# Altium schematic symbol library Incubator_HUZZAH32.SchLib: 14 symbols
Pins are listed as number, name and electrical type; pins without a type are passive.

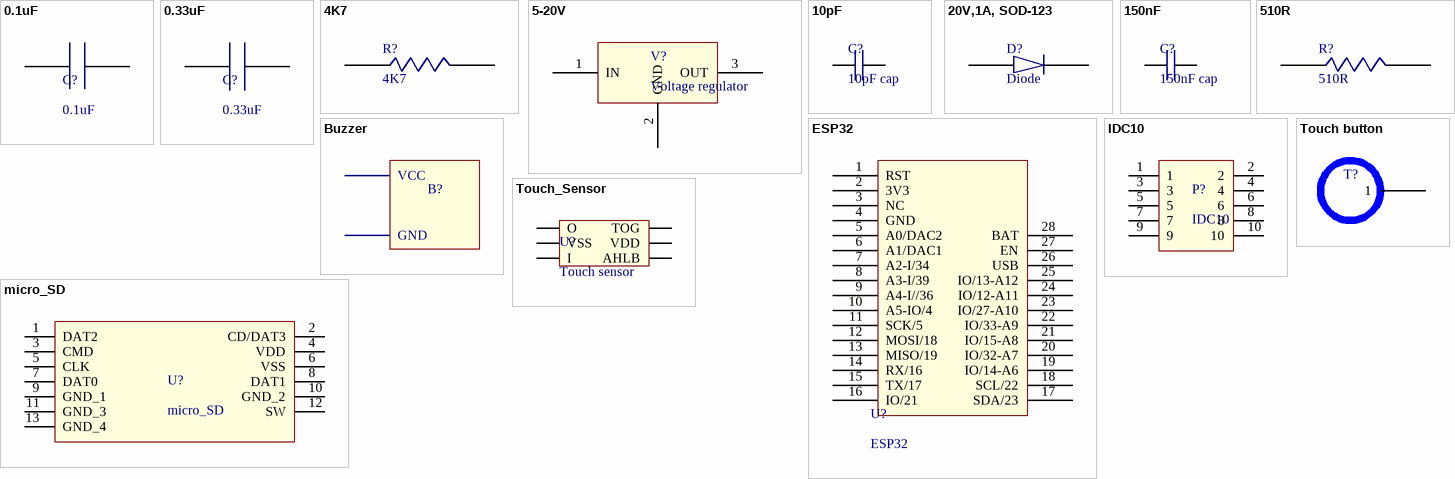
[diagram p0: symbols 0.1uF to Touch_Sensor]

## 0.1uF
designator C?
CAP CER 0.1UF 50V X7R 0603; Manufacturer: KEMET; Manufacturer Part Number: C0603C104J5RACAUTO; Capacitance: .1uF; Tolerance (+ or -): 5%; Voltage: 50VDC; Case Style: Ceramic Chip; Wire Form: Not Required; Product Length (mm): 1.6mm; Product Depth (mm): 0.8mm; Product Diameter (mm): Not Requiredmm; Supplier 1: Farnell; Stock 1: 0; Temp Coeff (Dielectric): X7R; Operating Temp Range: -55C to 125C; Mounting Style: Surface Mount; Package / Case: 0603; Construction: SMT Chip; Failure Rate: Not Required; Product Height (mm): 0.8mm; Packaging: Tape and Reel; Supplier Part Number 1: 2478241
footprint CAP0603 (Chip Capacitor, 2-Leads, Body 1.60x0.80mm, IPC Medium Density)
pins: 1, 2

## 0.33uF
designator C?
0.33µF ±10% 50V X7R Ceramic Capacitor -55°C ~ 125°C Surface Mount, MLCC 0603 (1608 Metric) 0.063" L x 0.031" W (1.60mm x 0.80mm); Manufacturer: TDK; Manufacturer Part Number: C1608X7R1H334K080AC; PCN Part Number: MLCC Part Number Change 30/Nov/2012; Product Training Modules: C Series General Applications SEAT, CCV, and TVCL Design Tools Guide to Replacing an Electrolytic Capacitor with an MLCC; Catalog Drawings: C SERIES_0603_0.95; Design Resources: 20 W Non-Isolated Buck LED Driver Using PL LNK460KG; EDA / CAD Models: Download from Accelerated Designs; Online Catalog: C Series, General Purpose; Other Names: 445-5950-6; Supplier 1: Farnell; Stock 1: 46003; Pricing 1: 10=0.405, 100=0.221, 500=0.152, 1000=0.116 (EUR); RoHS Information: RoHS Certificate-MLCC; Standard Package: 1; Category: Capacitors; Family: Ceramic Capacitors; Series: C; Packaging: Digi-Reel®; Capacitance: 0.33µF; Tolerance: ±10%; Voltage - Rated: 50V; Temperature Coefficient: X7R; Mounting Type: Surface Mount, MLCC; Operating Temperature: -55°C ~ 125°C; Applications: General Purpose; Package / Case: 0603 (1608 Metric); Size / Dimension: 0.063" L x 0.031" W (1.60mm x 0.80mm); Thickness (Max): 0.037" (0.95mm); Supplier Part Number 1: 2346907
footprint CAP0603 (Chip Capacitor, 2-Leads, Body 1.60x0.80mm, IPC Medium Density)
pins: 1, 2

## 4K7
designator R?
Res Thick Film 0603 4.7K Ohm 1% 0.1W(1/10W) ±100ppm/C Molded SMD Automotive T/R; Manufacturer: Panasonic; Manufacturer Part Number: ERJ-3EKF4701V; Resistance: 4.7 kOhms; Power Rating: 100 mW; Voltage Rating: 75 V; Qualification: AEC-Q200; Unit Weight: 0.000071 oz; Supplier 1: Farnell; Stock 1: 3193; Pricing 1: 10=0.0347, 100=0.0206, 500=0.0159, 1000=0.0142 (GBP); Product Category: Thick Film Resistors; RoHS: True; Tolerance: 1 %; Case Code - in: 0603; Temperature Coefficient: 100 PPM / C; Case Code - mm: 1608; Operating Temperature Range: - 55 C to + 155 C; Series: ERJ; Type: Precision Thick Film Resistors SMD; Brand: Panasonic; Height: 0.45 mm; Length: 1.6 mm; Package / Case: 0603 (1608 metric); Packaging: Reel; Product: Thick Film Resistors SMD; Factory Pack Quantity: 5000; Termination Style: SMD/SMT; Width: 0.8 mm; Supplier Part Number 1: 2303181
footprint RES0603 (Chip Resistor, 2-Leads, Body 1.60x0.80mm, IPC Medium Density)
pins: 1, 2

## 5-20V
designator V?, comment Voltage regulator
FAIRCHILD SEMICONDUCTOR         KA7805ERTF             Linear Voltage Regulator, 7805, Fixed, 10V To 35V In, 5V And 1A Out, TO-252-3; Manufacturer: ON Semiconductor / Fairchild; Minimum Input Voltage: 7 V; Maximum Input Voltage: 25 V; Number of Outputs: 1; Polarity: Positive; Typical Dropout Voltage @ Current: 2 V @ 1 A; Quiescent Current: 8mA; Load Regulation: 100 mV; Supplier 1: Farnell; Manufacturer Part Number: KA7805ERTF; Stock 1: 0; Pricing 1: 1=0.793, 50=0.693, 100=0.447 (GBP); Output Voltage: 5 V; Maximum Output Current: 1A; Package Type: DPAK; Output Type: Fixed; Mounting Type: Surface Mount; Regulator Function: Linear; Pin Count: 3; Minimum Operating Temperature: 0 °C; Maximum Operating Temperature: +125 °C; Series: KA78xx; Height: 2.38mm; Width: 6.22mm; Dropout Voltage Measurement Current: 1 A; Dimensions: 6.73 x 6.22 x 2.38mm; Length: 6.73mm; Line Regulation: 100 mV; Supplier Part Number 1: 2102585
footprint DPAK248P950X240-3N (D-PAK, 3-Pads, Body 6.25x6.76mm (max), IPC Medium Density)
pins: 1 IN, 2 GND, 3 OUT

## 10pF
designator C?, comment 10pF cap
Cap Ceramic 10pF 50V X7R 10% SMD 0603 125C T/R; Manufacturer: Kyocera AVX; Manufacturer Part Number: 06035C100KAT2A; Supplier 1: Farnell; Stock 1: 0; Capacitance: 10 pF; Case Size/Dimension: 0603; Dielectric: X7R; Tolerance (%): ±10 %; Rated Voltage: 50 V; Supplier Part Number 1: 2332633
footprint CAP0603 (Chip Capacitor, 2-Leads, Body 1.60x0.80mm, IPC Medium Density)
pins: 1, 2

## 20V,1A, SOD-123
designator D?, comment Diode
NXP         PMEG2010ER             Schottky Rectifier, Single, 20 V, 1 A, SOD-123W, 2 Pins, 340 mV; Manufacturer: NXP Semiconductors; Maximum Continuous Forward Current: 1A; Number of Elements per Chip: 1; Peak Reverse Repetitive Voltage: 20V; Peak Forward Voltage: 340mV; Peak Reverse Current: 1mA; Supplier 1: Farnell; Manufacturer Part Number: PMEG2010ER; Stock 1: 5091; Pricing 1: 5=0.314, 25=0.196, 100=0.147, 250=0.141, 500=0.0849, 1000=0.075, 5000=0.0735 (EUR); Diode Configuration: Single; Mounting Type: Surface Mount; Package Type: SOD-123; Diode Type: Schottky; Pin Count: 2; Length: 2.8mm; Width: 1.9mm; Height: 1.1mm; Dimensions: 2.8 x 1.9 x 1.1mm; Maximum Operating Temperature: +150 °C; Minimum Operating Temperature: -55 °C; ComponentLink1URL: https://datasheet.ciiva.com/5727/1760771-5727088.pdf; ComponentLink1Description: https://datasheet.ciiva.com/5727/1760771-5727088.pdf; ComponentLink2URL: https://datasheet.ciiva.com/22696/1383341-22696483.pdf; ComponentLink2Description: https://datasheet.ciiva.com/22696/1383341-22696483.pdf; ComponentLink3URL: https://datasheet.ciiva.com/7965/1383341-7965062.pdf; ComponentLink3Description: https://datasheet.ciiva.com/7965/1383341-7965062.pdf; Supplier Part Number 1: 1907681
footprint SODFL350X110-2N (SODFL, 2-Leads, Body 1.90x3.50mm, IPC Medium Density)
pins: 1, 2

## 150nF
designator C?, comment 150nF cap
Manufacturer: KEMET; Manufacturer Part Number: C0603C154K5RACAUTO; Capacitance: .15uF; Tolerance (+ or -): 10%; Voltage: 50VDC; Temp Coeff (Dielectric): X7R; Case Style: Ceramic Chip; Wire Form: Not Required; Product Length (mm): 1.6mm; Product Depth (mm): 0.8mm; Product Diameter (mm): Not Requiredmm; Supplier 1: Farnell; Stock 1: 3690; Pricing 1: 10=0.125, 100=0.0664, 500=0.0489, 1000=0.041 (EUR); Operating Temp Range: -55C to 125C; Mounting Style: Surface Mount; Package / Case: 0603; Construction: SMT Chip; Failure Rate: Not Required; Product Height (mm): 0.8mm; Packaging: Tape and Reel; Supplier Part Number 1: 2821222
footprint CAP0603 (Chip Capacitor, 2-Leads, Body 1.60x0.80mm, IPC Medium Density)
pins: 1, 2

## 510R
designator R?
Res Thick Film 0603 510 Ohm 1% 0.1W(1/10W) ±100ppm/C Molded SMD Automotive Punched T/R; Manufacturer: Panasonic; Manufacturer Part Number: ERJ-3EKF5100V; Temperature Coefficient: ± 100ppm/°C; SVHC: To Be Advised; Product Range: PANASONIC - ERJ Series Thick Film Chip Resistors; Resistance: 510ohm; Power Rating: 100mW; Resistor Case Style: 0603 ^1608 Metric]; Voltage Rating: 75V; Supplier 1: Farnell; Stock 1: 28364; Pricing 1: 10=0.0416, 100=0.0243, 500=0.0183, 1000=0.0164 (EUR); Resistor Element Type: Thick Film; Packaging: Full Reel; Resistance Tolerance: ± 1%; ComponentLink1URL: https://datasheet.ciiva.com/9181/aoa0000ce2-9181526.pdf; ComponentLink1Description: https://datasheet.ciiva.com/9181/aoa0000ce2-9181526.pdf; ComponentLink2URL: https://datasheet.ciiva.com/28565/1678782-28565126.pdf; ComponentLink2Description: https://datasheet.ciiva.com/28565/1678782-28565126.pdf; ComponentLink3URL: https://datasheet.ciiva.com/16787/70260748-16787975.pdf; ComponentLink3Description: https://datasheet.ciiva.com/16787/70260748-16787975.pdf; ComponentLink4URL: https://datasheet.ciiva.com/46436/426256-46436792.pdf; ComponentLink4Description: https://datasheet.ciiva.com/46436/426256-46436792.pdf; ComponentLink5URL: https://datasheet.ciiva.com/24027/aoa0000ce2-24027562.pdf; ComponentLink5Description: https://datasheet.ciiva.com/24027/aoa0000ce2-24027562.pdf; ComponentLink6URL: https://datasheet.ciiva.com/28676/1678782-28676970.pdf; ComponentLink6Description: https://datasheet.ciiva.com/28676/1678782-28676970.pdf; ComponentLink7URL: https://datasheet.ciiva.com/16514/aoa0000ce2-16514091.pdf; ComponentLink7Description: https://datasheet.ciiva.com/16514/aoa0000ce2-16514091.pdf; ComponentLink8URL: https://datasheet.ciiva.com/5868/426256-5868140.pdf; ComponentLink8Description: https://datasheet.ciiva.com/5868/426256-5868140.pdf; ComponentLink9URL: https://datasheet.ciiva.com/9181/aoa0000ce2-9181437.pdf; ComponentLink9Description: https://datasheet.ciiva.com/9181/aoa0000ce2-9181437.pdf; ComponentLink10URL: https://datasheet.ciiva.com/16775/70260748-16775519.pdf; ComponentLink10Description: https://datasheet.ciiva.com/16775/70260748-16775519.pdf; ComponentLink11URL: https://datasheet.ciiva.com/30146/aoa0000ce2-30146815.pdf; ComponentLink11Description: https://datasheet.ciiva.com/30146/aoa0000ce2-30146815.pdf; Supplier Part Number 1: 2059312
footprint RES0603 (Chip Resistor, 2-Leads, Body 1.60x0.80mm, IPC Medium Density)
pins: 1, 2

## Buzzer
designator B?  (value not drawn)
MULTICOMP         MCABT-458-RC            SOUNDER, 75DB, 1-25V, SMD; Supply Voltage Min: 1V; Supply Voltage Max: 25V; Tones: Single; Current Rating: 1mA; Resonant Frequency: 4kHz; SVHC: No SVHC (15-Jun-2015); Supplier 1: Farnell; Manufacturer: Multicomp; Manufacturer Part Number: MCABT-458-RC; Stock 1: 2929; Pricing 1: 1=1.84, 3=1.67, 5=1.53, 10=1.44, 20=1.18, 50=1.16, 250=1.13 (EUR); Sound Level SPL: 75dB; Transducer Function: Sounder; Transducer Mounting: SMD; Product Range: -; ComponentLink1URL: http://www.farnell.com/datasheets/1860703.pdf; ComponentLink1Description: http://www.farnell.com/datasheets/1860703.pdf
footprint Buzzer
pins: 1 VCC, 2 GND

## ESP32
designator U?
Dip connectro for MCU; Manufacturer: Adafruit Industries; Manufacturer Part Number: 3405; Supplier 1: Digi-Key; Stock 1: 276; Pricing 1: 1=19.95 (USD); ComponentLink1URL: https://espressif.com/sites/default/files/documentation/esp32_datasheet_en.pdf; ComponentLink1Description: https://espressif.com/sites/default/files/documentation/esp32_datasheet_en.pdf; Supplier Part Number 1: 1528-2181-ND
footprint ESP32
pins: 1 RST, 2 3V3, 3 NC, 4 GND, 5 A0/DAC2, 6 A1/DAC1, 7 A2-I/34, 8 A3-I/39, 9 A4-I//36, 10 A5-IO/4, 11 SCK/5, 12 MOSI/18, 13 MISO/19, 14 RX/16, 15 TX/17, 16 IO/21, 17 SDA/23, 18 SCL/22, 19 IO/14-A6, 20 IO/32-A7, 21 IO/15-A8, 22 IO/33-A9, 23 IO/27-A10, 24 IO/12-A11, 25 IO/13-A12, 26 USB, 27 EN, 28 BAT

## IDC10
designator P?
BOX HEADER 2.54MM MALE STR 10POS; Manufacturer: Wurth Electronics; Manufacturer Part Number: 61201021621; Number of Positions: 10 Position; Mounting Angle: Horizontal; Current Rating: 3 A; Insulation Resistance: 1000 MOhms; Voltage Rating: 250 V; Supplier 1: Farnell; Stock 1: 0; Product Category: Headers & Wire Housings; RoHS: True; Product: Headers; Type: Shrouded; Pitch: 2.54 mm; Number of Rows: 2 Row; Mounting Style: Through Hole; Termination Style: Solder; Contact Gender: Pin (Male); Contact Plating: Gold; Series: WR-BHD; Application: Wire-to-Board; Brand: Wurth Electronics; Contact Material: Copper Alloy; Flammability Rating: UL 94 V-0; Housing Material: Polybutylene Terephthalate (PBT); Operating Temperature Range: - 40 C to + 125 C; Packaging: Tray; ComponentLink1URL: https://datasheet.ciiva.com/731/6120xx21621-731344.pdf; ComponentLink1Description: https://datasheet.ciiva.com/731/6120xx21621-731344.pdf; ComponentLink2URL: https://datasheet.ciiva.com/15395/6120xx21621-265834-15395106.pdf; ComponentLink2Description: https://datasheet.ciiva.com/15395/6120xx21621-265834-15395106.pdf; ComponentLink3URL: https://datasheet.ciiva.com/7648/76595-7648121.pdf; ComponentLink3Description: https://datasheet.ciiva.com/7648/76595-7648121.pdf; Supplier Part Number 1: 1642019
footprint IDC10
pins: 1, 2, 3, 4, 5, 6, 7, 8, 9, 10

## micro_SD
designator U?
Manufacturer: Hirose; Manufacturer Part Number: DM3CS-SF; Product Training Modules: DM3 Series microSD Card Sockets; Featured Product: DM3CS Connector; HTML Datasheet: DM3 Series microSD.html; Card Type: Secure Digital - microSD™; Number of Positions: 10 (8 + 2); Connector Type: Connector and Ejector; Insertion, Removal Method: Hinged Lid; Online Catalog: DM3 Series; Other Names: HR1972DKR; Supplier 1: Farnell; Stock 1: 15420; Pricing 1: 1=0.967, 50=0.925, 100=0.883, 250=0.798, 500=0.735, 1000=0.494 (GBP); Standard Package: 1; Category: Connectors, Interconnects; Family: Memory Connectors - PC Card Sockets; Series: DM3; Packaging: Digi-Reel®; Ejector Side: -; Mounting Type: Surface Mount, Right Angle; Features: Switch; Height Above Board: 0.072" (1.83mm); Mounting Feature: Normal, Standard - Top; Contact Finish: Gold; Contact Finish Thickness: -; ComponentLink1URL: https://datasheet.ciiva.com/683/e60900232-683360.pdf; ComponentLink1Description: https://datasheet.ciiva.com/683/e60900232-683360.pdf; ComponentLink2URL: https://datasheet.ciiva.com/683/e60900232-683361.pdf; ComponentLink2Description: https://datasheet.ciiva.com/683/e60900232-683361.pdf; ComponentLink3URL: https://datasheet.ciiva.com/7651/1465328-7651895.pdf; ComponentLink3Description: https://datasheet.ciiva.com/7651/1465328-7651895.pdf; ComponentLink4URL: https://datasheet.ciiva.com/3122/e60900232-3122536.pdf; ComponentLink4Description: https://datasheet.ciiva.com/3122/e60900232-3122536.pdf; ComponentLink5URL: https://datasheet.ciiva.com/4581/e60900232-38395-4581034.pdf; ComponentLink5Description: https://datasheet.ciiva.com/4581/e60900232-38395-4581034.pdf; ComponentLink6URL: https://datasheet.ciiva.com/16434/e60900232-16434058.pdf; ComponentLink6Description: https://datasheet.ciiva.com/16434/e60900232-16434058.pdf; ComponentLink7URL: https://datasheet.ciiva.com/16655/e60900232-16655644.pdf; ComponentLink7Description: https://datasheet.ciiva.com/16655/e60900232-16655644.pdf; ComponentLink8URL: https://datasheet.ciiva.com/683/e60900232-683359.pdf; ComponentLink8Description: https://datasheet.ciiva.com/683/e60900232-683359.pdf; Supplier Part Number 1: 1764376
footprint micro_SD
pins: 1 DAT2, 2 CD/DAT3, 3 CMD, 4 VDD, 5 CLK, 6 VSS, 7 DAT0, 8 DAT1, 9 GND_1, 10 GND_2, 11 GND_3, 12 SW, 13 GND_4

## Touch button
designator T?  (value not drawn)
Touch button
footprint Touch_Button
pins: 1

## Touch_Sensor
designator U?, comment Touch sensor
footprint TTP223 (TSOP, 6-Leads, Body 2.90x1.70mm, Pitch 0.95mm, IPC Medium Density)
pins: 1 O, 2 VSS, 3 I, 4 AHLB, 5 VDD, 6 TOG